# Altium footprint library supercapacitors.PcbLib: 1 footprints
Each footprint in its own frame and in the unit in brackets; x right, y up, seen from the top. Pads: shape width x height; smd on the part's side, far side on the other; paste and mask are expansions set on the pad; w line width, h text height; cw(c..) or ccw(c..) is an arc to the next point about the centre after c.
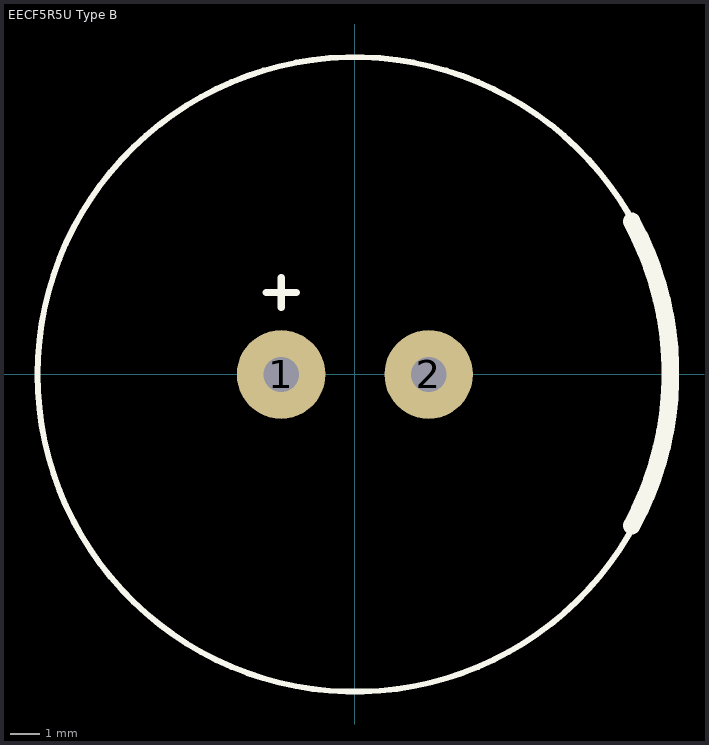
[diagram p0: the footprint, top view; thin cyan lines are the x and y axes]

## EECF5R5U Type B [mm] "Panasonic NF Series Electric Double Layer Capacitors (21,5mm DIA, 8mm H, 5mm SPACING)"
height 8
pads (2):
  round 3 hole 1.2: 1(-2.5,0) 2(2.5,0)
Top Overlay:
  circle w0.2: c0,0 r10.75
  lines w0.25: -3.008,2.778 -1.992,2.778 ; -2.5,2.27 -2.5,3.286
  lines w0.6: 9.378,-5.115 ccw(c-0.059,0.032) 9.378,5.18
3D body "User Library-Ionistor.step": height 8.01, standoff -6, extent -10.75,-10.75 10.76,10.75